# Altium footprint library Resistors_rus.PCBLIB: 80 footprints (part 4 of 5)
Each footprint in its own frame and in the unit in brackets; x right, y up, seen from the top. Pads: shape width x height; smd on the part's side, far side on the other; paste and mask are expansions set on the pad; w line width, h text height; cw(c..) or ccw(c..) is an arc to the next point about the centre after c.
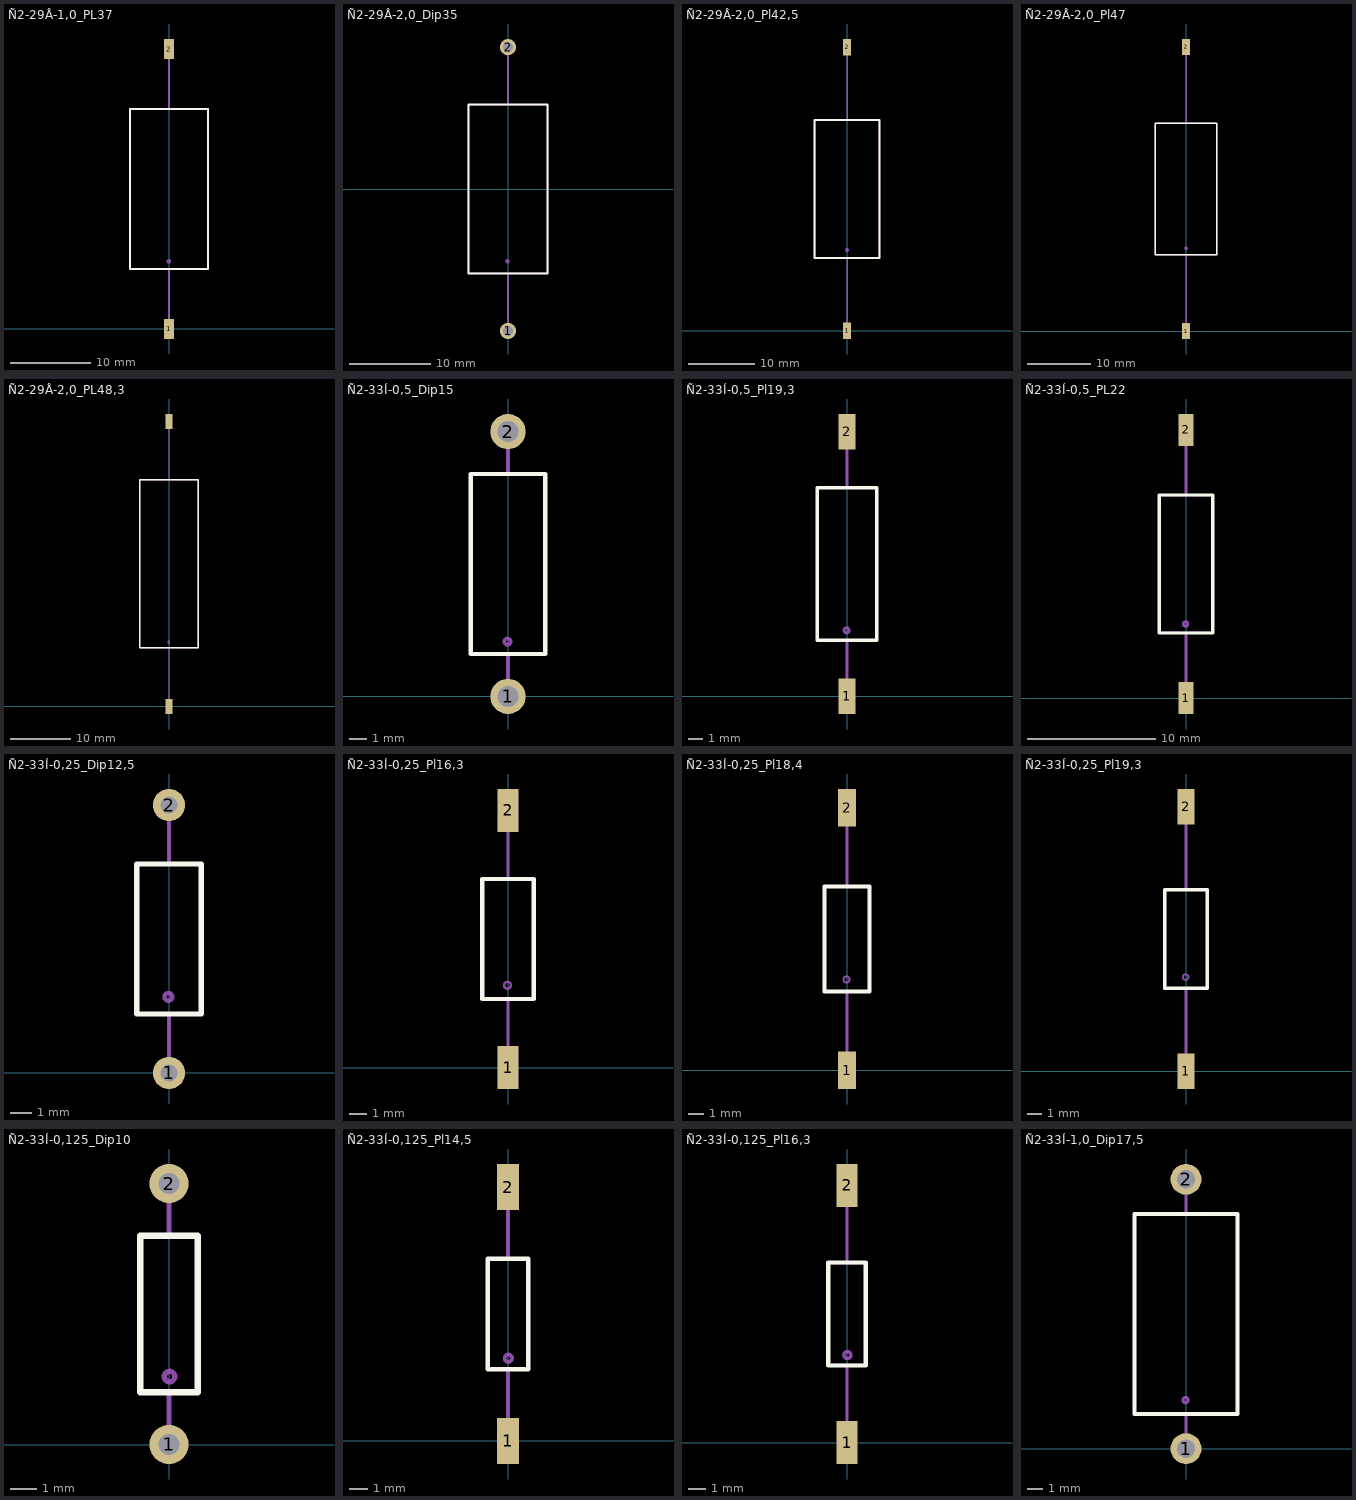
[diagram p3: the footprints below, top view; thin cyan lines are the x and y axes]

## Ñ2-29Â-1,0_PL37 [mm]
pads (2):
  rect 1.2x2.5 smd: 1(0,0) 2(0,35)
Top Overlay:
  lines w0.25: -4.9,7.5 -4.9,27.5 4.9,27.5 4.9,7.5 -4.9,7.5
Mechanical 1:
  circle w0.2: c-0.03,8.45 r0.18
  lines w0.2: 0,-1 0,7.5 ; 0,27.5 0,36 ; -4.9,7.5 -4.9,27.5 4.9,27.5 4.9,7.5 -4.9,7.5
  text ".Designator" at 0.4,16.1 h1.5
3D body: height 9.8, standoff -0.1, extent -4.9,-1 4.9,36

## Ñ2-29Â-2,0_Dip35 [mm]
pads (2):
  round 2 hole 1.2: 1(0,-17.5) 2(0,17.5)
Top Overlay:
  lines w0.25: -4.9,-10.4 4.9,-10.4 4.9,10.4 -4.9,10.4 -4.9,-10.4
Mechanical 1:
  circle w0.2: c-0.07,-8.9 r0.17
  lines w0.2: 0,-17.5 0,-10.4 ; 0,10.4 0,17.5 ; -4.9,-10.4 4.9,-10.4 4.9,10.4 -4.9,10.4 -4.9,-10.4
  text ".Designator" at 0.4,-1.65 h1.5
3D body: height 9.8, standoff -3, extent -4.9,-18 4.9,18

## Ñ2-29Â-2,0_Pl42,5 [mm]
pads (2):
  rect 1.2x2.5 smd: 1(0,0) 2(0,42.75)
Top Overlay:
  lines w0.25: -4.9,10.975 4.9,10.975 4.9,31.775 -4.9,31.775 -4.9,10.975
Mechanical 1:
  circle w0.2: c0.02,12.175 r0.18
  lines w0.2: 0,0 0,10.975 ; 0,31.775 0,42.75 ; -4.9,10.975 4.9,10.975 4.9,31.775 -4.9,31.775 -4.9,10.975
  text ".Designator" at 0.4,19.725 h1.5
3D body: height 9.8, standoff 0, extent -4.9,0.255 4.9,42.755

## Ñ2-29Â-2,0_Pl47 [mm]
pads (2):
  rect 1.2x2.5 smd: 1(0,0) 2(0,45)
Top Overlay:
  lines w0.25: -4.9,12.1 -4.9,32.9 4.9,32.9 4.9,12.1 -4.9,12.1
Mechanical 1:
  circle w0.2: c0.02,13.1 r0.18
  lines w0.2: 0,-1 0,12.1 ; 0,32.9 0,46 ; -4.9,12.1 -4.9,32.9 4.9,32.9 4.9,12.1 -4.9,12.1
  text ".Designator" at 0.4,21.1 h1.5
3D body: height 9.8, standoff 0, extent -4.9,-1 4.9,46

## Ñ2-29Â-2,0_PL48,3 [mm]
pads (2):
  rect 1.2x2.5 smd: 1(0,0) 2(0,47.5)
Top Overlay:
  lines w0.25: -4.9,9.75 -4.9,37.75 4.9,37.75 4.9,9.75 -4.9,9.75
Mechanical 1:
  circle w0.2: c-0.03,10.7 r0.18
  lines w0.2: 0,-0.4 0,9.75 ; 0,37.75 0,47.9 ; -4.9,9.75 -4.9,37.75 4.9,37.75 4.9,9.75 -4.9,9.75
  text ".Designator" at 0.4,22.35 h1.5
3D body: height 9.8, standoff 0, extent -4.9,0.25 4.9,47.25

## Ñ2-33Í-0,5_Dip15 [mm]
pads (2):
  round 2 hole 1.2: 1(0,0) 2(0,15)
Top Overlay:
  lines w0.25: -2.1,2.4 2.1,2.4 2.1,12.6 -2.1,12.6 -2.1,2.4
Mechanical 1:
  circle w0.2: c-0.03,3.1 r0.18
  lines w0.2: 0,0 0,2.4 ; 0,12.6 0,15 ; -2.1,2.4 2.1,2.4 2.1,12.6 -2.1,12.6 -2.1,2.4
  text ".Designator" at 0.4,6.1 h1.5
3D body: height 4.2, standoff -3, extent -2.15,-0.248 2.05,15.352

## Ñ2-33Í-0,5_Pl19,3 [mm]
pads (2):
  rect 1.2x2.5 smd: 1(0,0) 2(0,18.75)
Top Overlay:
  lines w0.25: -2.1,3.975 -2.1,14.775 2.1,14.775 2.1,3.975 -2.1,3.975
Mechanical 1:
  circle w0.2: c-0.03,4.675 r0.18
  lines w0.2: 0,-0.275 0,3.975 ; 0,14.775 0,19.025 ; -2.1,3.975 -2.1,14.775 2.1,14.775 2.1,3.975 -2.1,3.975
  text ".Designator" at 0.4,8.1 h1.5
3D body: height 4.2, standoff 0, extent -2.141,-0.308 2.059,18.992

## Ñ2-33Í-0,5_PL22 [mm]
pads (2):
  rect 1.2x2.5 smd: 1(0,0) 2(0,21)
Top Overlay:
  lines w0.25: -2.1,5.1 2.1,5.1 2.1,15.9 -2.1,15.9 -2.1,5.1
Mechanical 1:
  circle w0.2: c-0.03,5.8 r0.18
  lines w0.2: 0,-0.5 0,5.1 ; 0,15.9 0,21.5 ; -2.1,5.1 2.1,5.1 2.1,15.9 -2.1,15.9 -2.1,5.1
  text ".Designator" at 0.4,9.1 h1.5
3D body: height 4.2, standoff 0, extent -2.1,-0.5 2.1,21.5

## Ñ2-33Í-0,25_Dip12,5 [mm]
pads (2):
  round 1.5 hole 0.8: 1(0,0) 2(0,12.5)
Top Overlay:
  lines w0.25: -1.5,2.75 1.5,2.75 1.5,9.75 -1.5,9.75 -1.5,2.75
Mechanical 1:
  circle w0.2: c-0.03,3.55 r0.18
  lines w0.2: 0,0 0,2.75 ; 0,9.75 0,12.5 ; -1.5,2.75 1.5,2.75 1.5,9.75 -1.5,9.75 -1.5,2.75
  text ".Designator" at 0.4,4.85 h1.5
3D body: height 3.1, standoff -3, extent -1.6,-0.3 1.6,12.8

## Ñ2-33Í-0,25_Pl16,3 [mm]
pads (2):
  rect 1.2x2.5 smd: 1(0,0) 2(0,15)
Top Overlay:
  lines w0.25: -1.5,4 1.5,4 1.5,11 -1.5,11 -1.5,4
Mechanical 1:
  circle w0.13: c-0.03,4.8 r0.2
  lines w0.2: 0,-0.65 0,4 ; 0,11 0,15.65 ; -1.5,4 1.5,4 1.5,11 -1.5,11 -1.5,4
  text ".Designator" at 0.4,6.1 h1.5
3D body: height 3.2, standoff 0, extent -1.6,-0.65 1.6,15.65

## Ñ2-33Í-0,25_Pl18,4 [mm]
pads (2):
  rect 1.2x2.5 smd: 1(0,0) 2(0,17.5)
Top Overlay:
  lines w0.25: -1.5,5.25 1.5,5.25 1.5,12.25 -1.5,12.25 -1.5,5.25
Mechanical 1:
  circle w0.13: c-0.03,6.05 r0.2
  lines w0.2: 0,-0.45 0,5.25 ; 0,12.25 0,17.95 ; -1.5,5.25 1.5,5.25 1.5,12.25 -1.5,12.25 -1.5,5.25
  text ".Designator" at 0.4,7.35 h1.5
3D body: height 3.2, standoff 0, extent -1.598,-0.447 1.602,17.953

## Ñ2-33Í-0,25_Pl19,3 [mm]
pads (2):
  rect 1.2x2.5 smd: 1(0,0) 2(0,18.75)
Top Overlay:
  lines w0.25: -1.5,5.875 -1.5,12.875 1.5,12.875 1.5,5.875 -1.5,5.875
Mechanical 1:
  circle w0.13: c-0.03,6.675 r0.2
  lines w0.2: 0,-0.275 0,5.875 ; 0,12.875 0,19.025 ; -1.5,5.875 -1.5,12.875 1.5,12.875 1.5,5.875 -1.5,5.875
  text ".Designator" at 0.4,7.85 h1.5
3D body: height 3.2, standoff 0, extent -1.6,-0.275 1.6,19.025

## Ñ2-33Í-0,125_Dip10 [mm]
height 2.2
pads (2):
  round 1.5 hole 0.8: 1(0,0.005) 2(0,10)
Top Overlay:
  lines w0.25: -1.1,2 1.1,2 1.1,8 -1.1,8 -1.1,2
Mechanical 1:
  circle w0.2: c0.02,2.605 r0.2
  lines w0.2: -1.1,2 1.1,2 ; -1.1,2.005 -1.1,8 1.1,8 1.1,2.005 ; 0,0.005 0,2 ; 0,8 0,10.005
  text ".Designator" at 0.4,3.6 h1.5
3D body: height 2.2, standoff -3, extent -1.1,-0.3 1.096,10.299

## Ñ2-33Í-0,125_Pl14,5 [mm]
height 2.2
pads (2):
  rect 1.2x2.5 smd: 1(0,0) 2(0,13.75)
Top Overlay:
  lines w0.25: -1.1,3.875 1.1,3.875 1.1,9.875 -1.1,9.875 -1.1,3.875
Mechanical 1:
  circle w0.2: c0.02,4.48 r0.2
  lines w0.2: 0,-0.375 0,3.875 ; 0,10 0,14.125 ; -1.1,3.875 1.1,3.875 1.1,9.875 -1.1,9.875 -1.1,3.875
  text ".Designator" at 0.4,5.35 h1.5
3D body: height 2.2, standoff 0, extent -1.1,-0.375 1.096,14.125

## Ñ2-33Í-0,125_Pl16,3 [mm]
height 2.2
pads (2):
  rect 1.2x2.5 smd: 1(0,0) 2(0,15)
Top Overlay:
  lines w0.25: -1.1,4.5 -1.1,10.5 1.1,10.5 1.1,4.5 -1.1,4.5
Mechanical 1:
  circle w0.2: c0.02,5.105 r0.2
  lines w0.2: 0,-0.65 0,4.5 ; 0,10.5 0,15.65 ; -1.1,4.5 -1.1,10.5 1.1,10.5 1.1,4.5 -1.1,4.5
  text ".Designator" at 0.4,6.1 h1.5
3D body: height 2.2, standoff 0, extent -1.095,-0.65 1.101,15.65

## Ñ2-33Í-1,0_Dip17,5 [mm]
pads (2):
  round 2 hole 1.2: 1(0,0) 2(0,17.5)
Top Overlay:
  lines w0.25: -3.35,2.25 3.35,2.25 3.35,15.25 -3.35,15.25 -3.35,2.25
Mechanical 1:
  circle w0.2: c-0.03,3.15 r0.17
  lines w0.2: 0,0 0,2.25 ; 0,15.25 0,17.5 ; -3.35,2.25 3.35,2.25 3.35,15.25 -3.35,15.25 -3.35,2.25
  text ".Designator" at 0.4,7.35 h1.5
3D body: height 6.7, standoff -3, extent -3.318,-0.348 3.382,17.952